# Altium footprint library Pcblib_20110825.Pcblib: 408 footprints (part 12 of 26)
Each footprint in its own frame and in the unit in brackets; x right, y up, seen from the top. Pads: shape width x height; smd on the part's side, far side on the other; paste and mask are expansions set on the pad; w line width, h text height; cw(c..) or ccw(c..) is an arc to the next point about the centre after c.
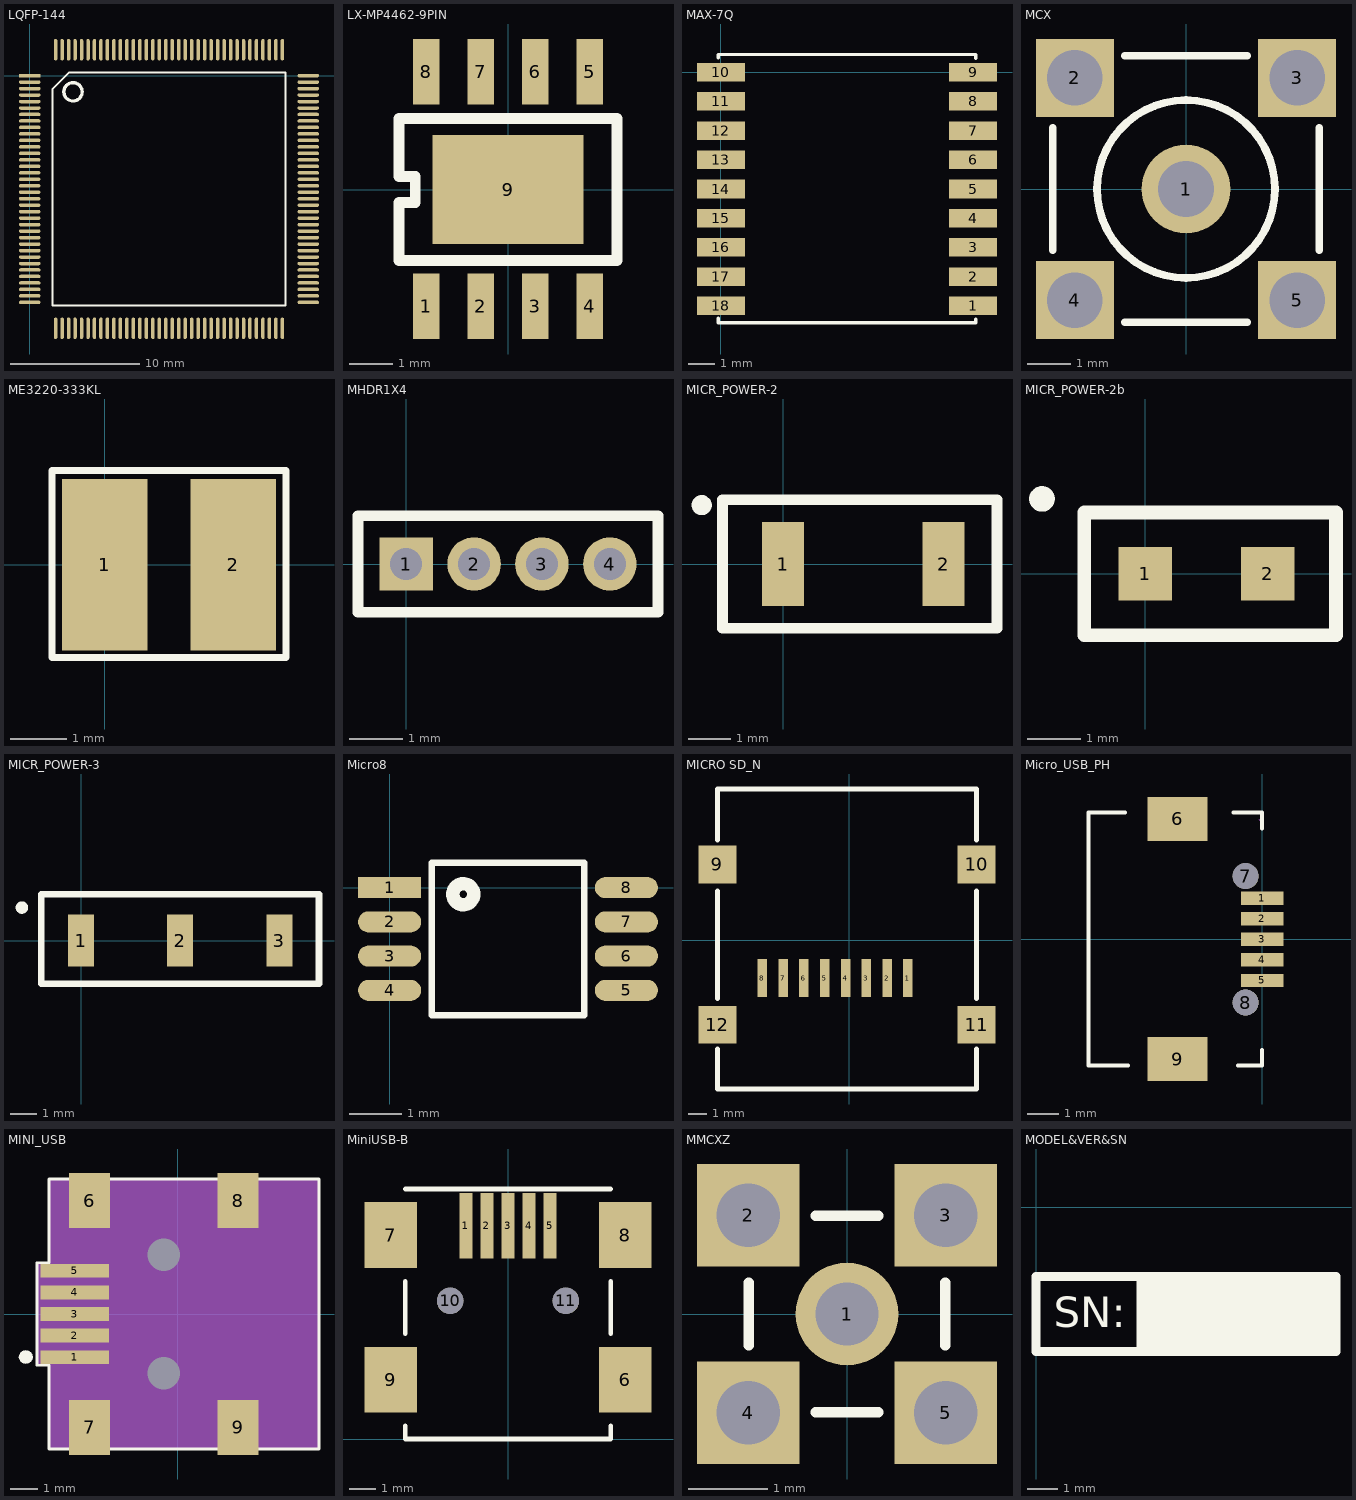
[diagram p11: the footprints below, top view; thin cyan lines are the x and y axes]

## LQFP-144 [mm]
pads (144):
  rect 1.65x0.27 smd: 1(0,0)
  oval 1.65x0.27 smd: 2(0,-0.5) 3(0,-1) 4(0,-1.5) 5(0,-2) 6(0,-2.5) 7(0,-3) 8(0,-3.5) 9(0,-4) 10(0,-4.5) 11(0,-5) 12(0,-5.5) 13(0,-6) 14(0,-6.5) 15(0,-7) 16(0,-7.5) 17(0,-8) 18(0,-8.5) 19(0,-9) 20(0,-9.5) 21(0,-10) 22(0,-10.5) 23(0,-11) 24(0,-11.5) 25(0,-12) 26(0,-12.5) 27(0,-13) 28(0,-13.5) 29(0,-14) 30(0,-14.5) 31(0,-15) 32(0,-15.5) 33(0,-16) 34(0,-16.5) 35(0,-17) 36(0,-17.5) 73(21.5,-17.5) 74(21.5,-17) 75(21.5,-16.5) 76(21.5,-16) 77(21.5,-15.5) 78(21.5,-15) 79(21.5,-14.5) 80(21.5,-14) 81(21.5,-13.5) 82(21.5,-13) 83(21.5,-12.5) 84(21.5,-12) 85(21.5,-11.5) 86(21.5,-11) 87(21.5,-10.5) 88(21.5,-10) 89(21.5,-9.5) 90(21.5,-9) 91(21.5,-8.5) 92(21.5,-8) 93(21.5,-7.5) 94(21.5,-7) 95(21.5,-6.5) 96(21.5,-6) 97(21.5,-5.5) 98(21.5,-5) 99(21.5,-4.5) 100(21.5,-4) 101(21.5,-3.5) 102(21.5,-3) 103(21.5,-2.5) 104(21.5,-2) 105(21.5,-1.5) 106(21.5,-1) 107(21.5,-0.5) 108(21.5,0)
  oval 0.27x1.65 smd: 37(2,-19.5) 38(2.5,-19.5) 39(3,-19.5) 40(3.5,-19.5) 41(4,-19.5) 42(4.5,-19.5) 43(5,-19.5) 44(5.5,-19.5) 45(6,-19.5) 46(6.5,-19.5) 47(7,-19.5) 48(7.5,-19.5) 49(8,-19.5) 50(8.5,-19.5) 51(9,-19.5) 52(9.5,-19.5) 53(10,-19.5) 54(10.5,-19.5) 55(11,-19.5) 56(11.5,-19.5) 57(12,-19.5) 58(12.5,-19.5) 59(13,-19.5) 60(13.5,-19.5) 61(14,-19.5) 62(14.5,-19.5) 63(15,-19.5) 64(15.5,-19.5) 65(16,-19.5) 66(16.5,-19.5) 67(17,-19.5) 68(17.5,-19.5) 69(18,-19.5) 70(18.5,-19.5) 71(19,-19.5) 72(19.5,-19.5) 109(19.5,2) 110(19,2) 111(18.5,2) 112(18,2) 113(17.5,2) 114(17,2) 115(16.5,2) 116(16,2) 117(15.5,2) 118(15,2) 119(14.5,2) 120(14,2) 121(13.5,2) 122(13,2) 123(12.5,2) 124(12,2) 125(11.5,2) 126(11,2) 127(10.5,2) 128(10,2) 129(9.5,2) 130(9,2) 131(8.5,2) 132(8,2) 133(7.5,2) 134(7,2) 135(6.5,2) 136(6,2) 137(5.5,2) 138(5,2) 139(4.5,2) 140(4,2) 141(3.5,2) 142(3,2) 143(2.5,2) 144(2,2)
TopOverlay:
  circle w0.254: c3.343,-1.25 r0.707
  lines w0.152: 1.75,-17.75 1.75,-1.05 3.05,0.25 19.75,0.25 19.75,-17.75 1.75,-17.75

## LX-MP4462-9PIN [mil]
pads (9):
  rect 24x60 smd: 1(-75,-107) 2(-25,-107) 3(25,-107) 4(75,-107) 5(75,108) 6(25,108) 7(-25,108) 8(-75,108)
  rect 138.74x100 smd: 9(0,0)
TopOverlay:
  lines w10: -100,-65 -100,-12 -85,-12 -85,12 -100,12 -100,65 100,65 100,-65 -100,-65

## MAX-7Q [mm]
pads (18):
  rect 1.8x0.7 smd: 1(9.5,-8.8) 2(9.5,-7.7) 3(9.5,-6.6) 4(9.5,-5.5) 5(9.5,-4.4) 6(9.5,-3.3) 7(9.5,-2.2) 8(9.5,-1.1) 9(9.5,0) 10(0,0) 11(0,-1.1) 12(0,-2.2) 13(0,-3.3) 14(0,-4.4) 15(0,-5.5) 16(0,-6.6) 17(0,-7.7) 18(0,-8.8)
TopOverlay:
  lines w0.127: -0.1,-9.26 -0.1,-9.435 9.6,-9.435 9.6,-9.308 ; -0.1,0.55 -0.1,0.665 9.6,0.665 9.6,0.522

## MCX [mil]
pads (5):
  round 80 hole 50: 1(0,0)
  rect 70x70 hole 50: 2(-100,100) 3(100,100) 4(-100,-100) 5(100,-100)
TopOverlay:
  circle w7: c0,0 r80
  lines w7: -120,-55.12 -120,55.12 ; -55.12,-120 55.12,-120 ; -55.12,120 55.12,120 ; 120,-55.12 120,55.12

## ME3220-333KL [mm]
pads (2):
  rect 1.52x3.05 smd: 1(0,0) 2(2.29,0)
TopOverlay:
  lines w0.127: -0.94,-1.651 -0.94,1.676 3.226,1.676 3.226,-1.651 -0.94,-1.651

## MHDR1X4 [mm] "Connector; Header; 4 Position"
height 6.5
pads (4):
  rect 1x1 hole 0.6: 1(0,0)
  round 1 hole 0.6: 2(1.27,0) 3(2.54,0) 4(3.81,0)
TopOverlay:
  lines w0.2: -0.9,-0.9 -0.9,0.9 4.71,0.9 4.71,-0.9 -0.9,-0.9

## MICR_POWER-2 [mm]
pads (2):
  rect 1x2 smd: 1(0,0) 2(3.81,0)
TopOverlay:
  circle w0.254: c-1.93,1.397 r0.112
  lines w0.254: -1.437,-1.524 -1.437,1.524 5.08,1.524 5.08,-1.524 -1.437,-1.524

## MICR_POWER-2b [mm]
pads (2):
  rect 1x1 smd: 1(0,0) 2(2.286,0)
TopOverlay:
  circle w0.254: c-1.93,1.397 r0.112
  lines w0.254: -1.143,-1.143 -1.143,1.143 3.556,1.143 3.556,-1.143 -1.143,-1.143

## MICR_POWER-3 [mm]
pads (3):
  rect 1x2 smd: 1(0,0) 2(3.81,0) 3(7.62,0)
TopOverlay:
  circle w0.254: c-2.271,1.27 r0.112
  lines w0.254: -1.524,-1.651 -1.524,1.778 9.144,1.778 9.144,-1.651 -1.524,-1.651

## Micro8 [mm]
pads (8):
  rect 1.2x0.4 smd: 1(0,0)
  oval 1.2x0.4 smd: 2(0,-0.65) 3(0,-1.3) 4(0,-1.95) 5(4.5,-1.95) 6(4.5,-1.3) 7(4.5,-0.65) 8(4.5,0)
TopOverlay:
  circle w0.254: c1.4,-0.125 r0.2
  lines w0.127: 0.8,-2.425 0.8,0.475 3.7,0.475 3.7,-2.425 0.8,-2.425

## MICRO SD_N [mm]
pads (12):
  rect 0.5x2 smd: 1(3.096,-2.007) 2(1.996,-2.007) 3(0.896,-2.007) 4(-0.204,-2.007) 5(-1.304,-2.007) 6(-2.404,-2.007) 7(-3.504,-2.007) 8(-4.604,-2.007)
  rect 2x2 smd: 9(-6.985,4.008) 10(6.731,4.008) 11(6.731,-4.475) 12(-6.985,-4.475)
TopOverlay:
  lines w0.254: -6.985,-5.75 -6.985,-7.874 6.731,-7.874 6.731,-5.75 ; -6.985,-3.1 -6.985,2.6 ; -6.985,5.3 -6.985,8.001 6.731,8.001 6.731,5.3 ; 6.731,-3.1 6.731,2.6

## Micro_USB_PH [mm]
pads (9):
  rect 1.35x0.42 smd: 1(0,1.3) 2(0,0.65) 3(0,0) 4(0,-0.65) 5(0,-1.3)
  rect 1.9x1.4 smd: 6(-2.675,3.811) 9(-2.675,-3.789)
  round 0.82 hole 0.82 unplated: 7(-0.525,2) 8(-0.525,-2)
TopOverlay:
  lines w0.127: -4.343,4.013 -5.5,4.013 -5.5,-4 -4.242,-4 ; -0.914,4.013 0,4.013 0,3.505 ; -0.762,-4 0,-4 0,-3.5
Mechanical16:
  lines w0.025: -0.102,3.81 0,3.708

## MINI_USB [mil] "MINI_USB"
pads (11):
  rect 100x20.1 smd: 1(-150.6,-63) 2(-150.6,-31.5) 3(-150.6,0) 4(-150.6,31.5) 5(-150.6,63)
  rect 59.8x79.9 smd: 6(-128.9,165.4) 7(-128.9,-165.4) 8(87.6,165.4) 9(87.6,-165.4)
  round 19.7 hole 47.2: " "(-20.7,-86.6) " "(-20.7,86.6)
TopOverlay:
  pour cut-out: -222,-52.91 -225.78,-53.66 -228.99,-55.81 -231.14,-59.01 -231.89,-62.8 -231.14,-66.58 -228.99,-69.79 -225.78,-71.94 -222,-72.69 -218.22,-71.94 -215.01,-69.79 -212.86,-66.58 -212.11,-62.8 -212.86,-59.01 -215.01,-55.81 -218.22,-53.66
  lines w3.94: -205.7,-74.8 -188,-74.8 -188,-196.9 205.7,-196.9 205.7,196.9 -188,196.9 -188,74.8 -205.7,74.8 -205.7,-74.8
Mechanical12:
  text "4" at -150.6,21.5 h25
  text "1" at -150.6,-73 h25
  text "2" at -150.6,-41.5 h25
  text "3" at -150.6,-10 h25
  text "6" at -128.9,155.4 h25
  text "8" at 87.6,155.4 h25
  text "5" at -150.6,53 h25
  text "7" at -128.9,-175.4 h25
  text "9" at 87.6,-175.4 h25
Mechanical15:
  region: -205.7,74.8 -188,74.8 -188,196.9 205.7,196.9 205.7,-196.9 -188,-196.9 -188,-74.8 -205.7,-74.8
Mechanical16:
  lines w1: -188,78.7 -188,74.8 ; -188,74.8 -188,196.9 205.7,196.9 205.7,-196.9 -188,-196.9 -188,-74.8 -205.7,-74.8 -205.7,74.8 -188,74.8

## MiniUSB-B [mm]
pads (11):
  rect 0.5x2.5 smd: 1(-1.6,8.1) 2(-0.8,8.1) 3(0,8.1) 4(0.8,8.1) 5(1.6,8.1)
  rect 2x2.5 smd: 6(4.45,2.25) 7(-4.45,7.75) 8(4.45,7.75) 9(-4.45,2.25)
  round 1 hole 1 unplated: 10(-2.2,5.25) 11(2.2,5.25)
TopOverlay:
  lines w0.178: -3.9,0.5 -3.9,0 3.9,0 3.9,0.5 ; -3.9,4 -3.9,6 ; -3.9,9.5 3.9,9.5 ; 3.9,4 3.9,6

## MMCXZ [mm]
pads (5):
  round 1.3 hole 0.8: 1(0,0)
  rect 1.3x1.3 hole 0.8: 2(-1.25,1.25) 3(1.25,1.25) 4(-1.25,-1.25) 5(1.25,-1.25)
TopOverlay:
  lines w0.127: -1.245,-0.4 -1.245,0.4 ; -0.4,-1.245 0.4,-1.245 ; -0.4,1.245 0.4,1.245 ; 1.245,-0.4 1.245,0.4

## MODEL&VER&SN [mm]
TopOverlay:
  rectangle: 3.5,-4.8 10,-2.3
  lines w0.305: 3.5,-4.8 3.5,-2.3 ; 0,-4.8 10,-4.8 10,-2.3 0,-2.3 0,-4.8
  text "SN:" at 0.6,-4 h1.02